# Altium footprint library Electro-Mechanical.PcbLib: 37 footprints (part 3 of 3)
Each footprint in its own frame and in the unit in brackets; x right, y up, seen from the top. Pads: shape width x height; smd on the part's side, far side on the other; paste and mask are expansions set on the pad; w line width, h text height; cw(c..) or ccw(c..) is an arc to the next point about the centre after c.
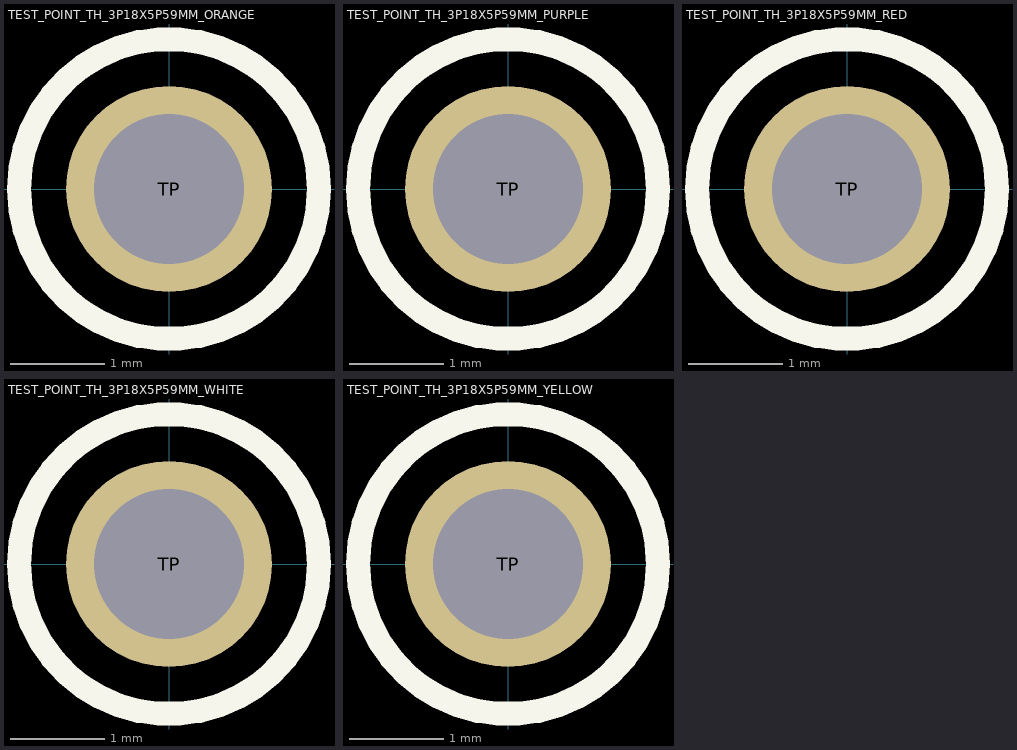
[diagram p2: the footprints below, top view; thin cyan lines are the x and y axes]

## TEST_POINT_TH_3P18X5P59MM_ORANGE [mm]
pads (1):
  round 2.2 hole 1.6: TP(0,0)
Top Overlay:
  circle w0.254: c0,0 r1.6
3D body "5008 (Orange).step": height 5.59, standoff -3.3, extent -1.59,-1.578 1.59,1.578

## TEST_POINT_TH_3P18X5P59MM_PURPLE [mm]
pads (1):
  round 2.2 hole 1.6: TP(0,0)
Top Overlay:
  circle w0.254: c0,0 r1.6
3D body "5124 (Purple).step": height 5.59, standoff -3.3, extent -1.59,-1.578 1.59,1.578

## TEST_POINT_TH_3P18X5P59MM_RED [mm]
pads (1):
  round 2.2 hole 1.6: TP(0,0)
Top Overlay:
  circle w0.254: c0,0 r1.6
3D body "5005 (Red).step": height 5.59, standoff -3.3, extent -1.59,-1.578 1.59,1.578

## TEST_POINT_TH_3P18X5P59MM_WHITE [mm]
pads (1):
  round 2.2 hole 1.6: TP(0,0)
Top Overlay:
  circle w0.254: c0,0 r1.6
3D body "5007 (White).step": height 5.59, standoff -3.3, extent -1.59,-1.578 1.59,1.578

## TEST_POINT_TH_3P18X5P59MM_YELLOW [mm]
pads (1):
  round 2.2 hole 1.6: TP(0,0)
Top Overlay:
  circle w0.254: c0,0 r1.6
3D body "5009 (Yellow).step": height 5.59, standoff -3.3, extent -1.59,-1.578 1.59,1.578